# Altium footprint library 2171790001.PcbLib: 1 footprints
Each footprint in its own frame and in the unit in brackets; x right, y up, seen from the top. Pads: shape width x height; smd on the part's side, far side on the other; paste and mask are expansions set on the pad; w line width, h text height; cw(c..) or ccw(c..) is an arc to the next point about the centre after c.
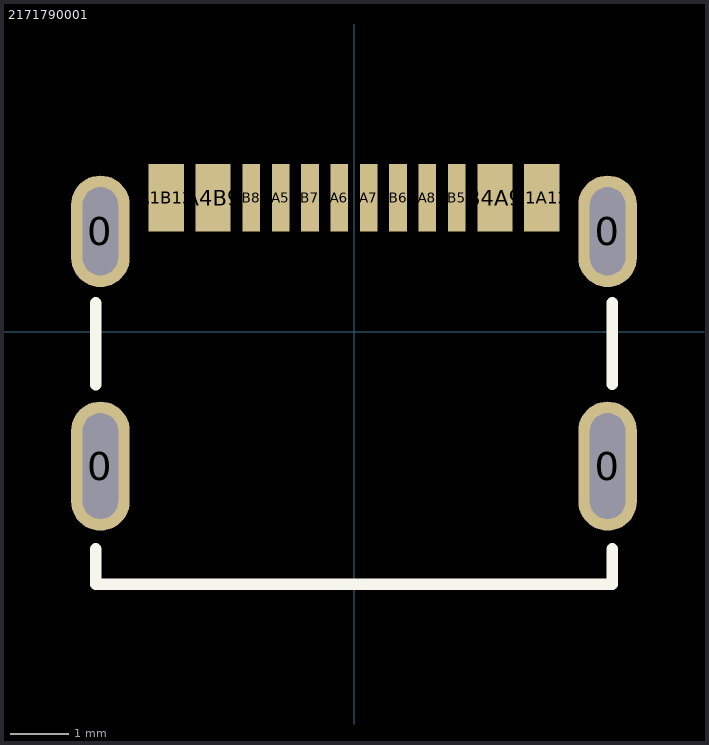
[diagram p0: the footprint, top view; thin cyan lines are the x and y axes]

## 2171790001 [mm] "16 circuits surface mount USB type C connector for USB2.0"
pads (16):
  oval 1x2.2 hole 0.6 slot 1.8 at 90 deg: 0(-4.32,-2.287) 0(4.32,-2.287)
  oval 1x1.9 hole 0.6 slot 1.5 at 90 deg: 0(-4.32,1.713) 0(4.32,1.713)
  rect 0.6x1.15 smd: A1B12(-3.2,2.288) A4B9(-2.4,2.288) B1A12(3.2,2.288) B4A9(2.4,2.288)
  rect 0.3x1.15 smd: A5(-1.25,2.288) A6(-0.25,2.288) A7(0.25,2.288) A8(1.25,2.288) B5(1.75,2.288) B6(0.75,2.288) B7(-0.75,2.288) B8(-1.75,2.288)
Top Overlay:
  lines w0.2: -4.4,-3.7 -4.4,-4.3 4.4,-4.3 4.4,-3.7 ; -4.4,-0.9 -4.4,0.491 ; 4.4,-0.895 4.4,0.495
3D body "2171790001.stp": height 3.25, standoff -0.81, extent -4.47,-4.375 4.47,2.375